# Altium footprint library pin_header.PcbLib: 1 footprints
Each footprint in its own frame and in the unit in brackets; x right, y up, seen from the top. Pads: shape width x height; smd on the part's side, far side on the other; paste and mask are expansions set on the pad; w line width, h text height; cw(c..) or ccw(c..) is an arc to the next point about the centre after c.
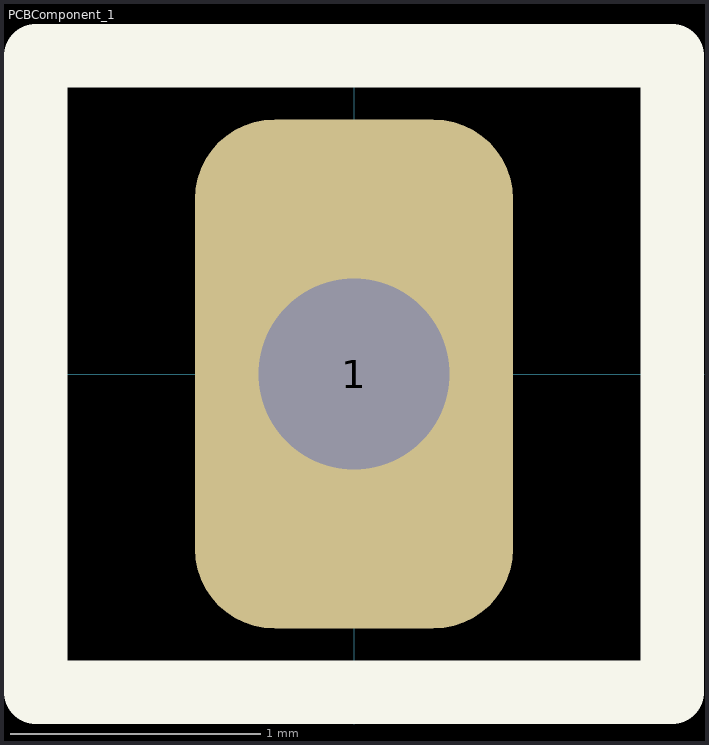
[diagram p0: the footprint, top view; thin cyan lines are the x and y axes]

## PCBComponent_1 [mil]
pads (1):
  rrect50% 50x80 hole 30: 1(0,0)
Top Overlay:
  lines w10: -50,-50 50,-50 50,50 -50,50 -50,-50
3D body "pin_header.STEP": height 334.65, standoff -118.11, extent -50,-48.1 50,51.9